# Altium footprint library Transformers.PcbLib: 55 footprints (part 2 of 4)
Each footprint in its own frame and in the unit in brackets; x right, y up, seen from the top. Pads: shape width x height; smd on the part's side, far side on the other; paste and mask are expansions set on the pad; w line width, h text height; cw(c..) or ccw(c..) is an arc to the next point about the centre after c.
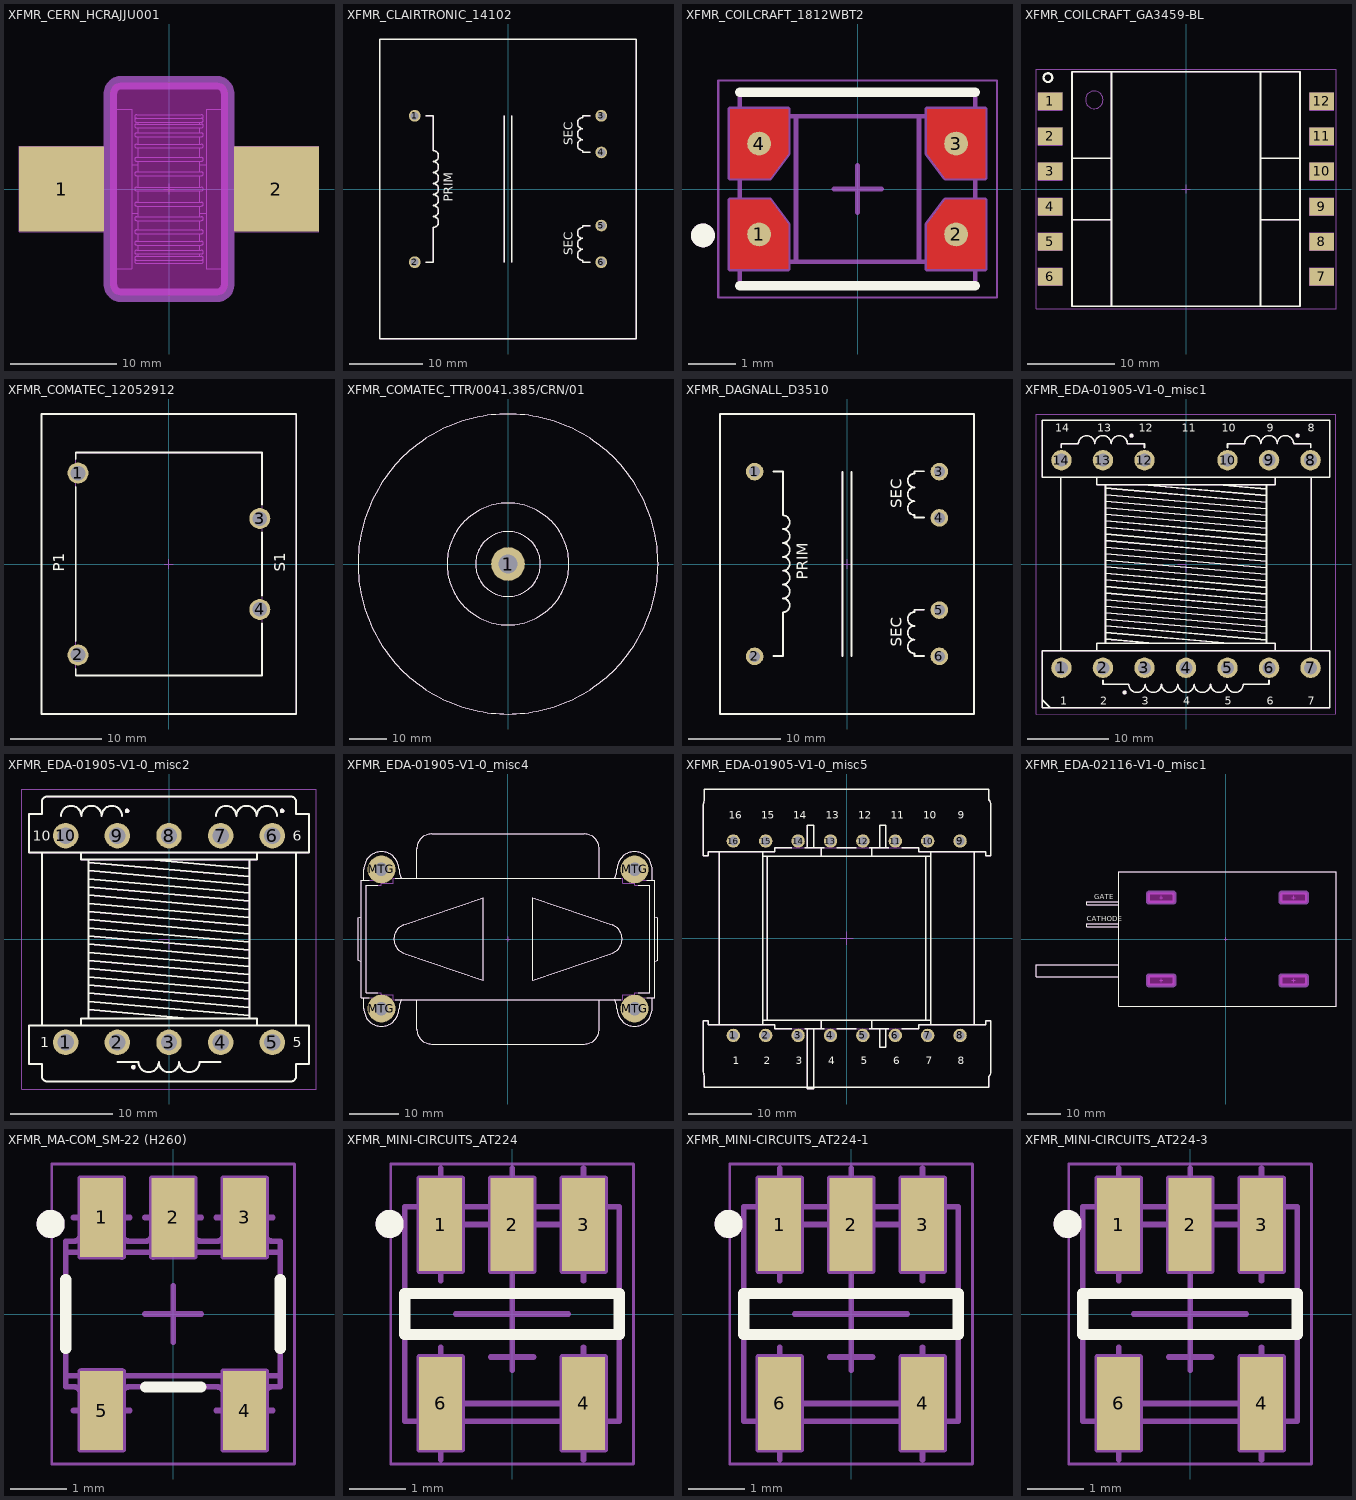
[diagram p1: the footprints below, top view; thin cyan lines are the x and y axes]

## XFMR_CERN_HCRAJJU001 [mm] "CERN HF Current transformer"
height 14
pads (2):
  rect 8x8 smd paste-4 mask+0.1: 1(-10.1,0) 2(10.1,0)
Keep-Out Layer:
  board cut-out: -5.5,-9 -5.5,9 -5.5,9.098 -5.462,9.292 -5.386,9.474 -5.277,9.637 -5.137,9.777 -4.974,9.886 -4.792,9.962 -4.598,10 -4.5,10 4.5,10 4.598,10 4.792,9.962 4.974,9.886 5.137,9.777 5.277,9.637 5.386,9.474 5.462,9.292 5.5,9.098 5.5,9 5.5,-9 5.5,-9.098 5.462,-9.292 5.386,-9.474 5.277,-9.637 5.137,-9.777 4.974,-9.886 4.792,-9.962 4.598,-10 4.5,-10 -4.5,-10 -4.598,-10 -4.792,-9.962 -4.974,-9.886 -5.137,-9.777 -5.277,-9.637 -5.386,-9.474 -5.462,-9.292 -5.5,-9.098
Mechanical 1:
  lines w1.27: -5.5,-9 ccw(c-4.5,-9) -4.5,-10 4.5,-10 ccw(c4.5,-9) 5.5,-9 5.5,9 ccw(c4.5,9) 4.5,10 -4.5,10 ccw(c-4.5,9) -5.5,9 -5.5,-9
Mechanical 8:
  lines w0.1: -10.6,0 -10.1,0 ; -10.1,-0.5 -10.1,0 ; -10.1,0.5 -10.1,0 ; -9.6,0 -10.1,0 ; -0.5,0 0,0 ; 0,-0.5 0,0 ; 0,0.5 0,0 ; 0.5,0 0,0 ; 9.6,0 10.1,0 ; 10.1,-0.5 10.1,0 ; 10.1,0.5 10.1,0 ; 10.6,0 10.1,0 ; -14.1,-4 -6.1,-4 -6.1,4 -14.1,4 -14.1,-4 ; -5.5,-9 ccw(c-4.5,-9) -4.5,-10 4.5,-10 ccw(c4.5,-9) 5.5,-9 5.5,9 ccw(c4.5,9) 4.5,10 -4.5,10 ccw(c-4.5,9) -5.5,9 -5.5,-9 ; 6.1,-4 14.1,-4 14.1,4 6.1,4 6.1,-4
Mechanical 14:
  lines w0.1: -5,-2.3 -8.55,-2.3 -8.55,2.3 -5,2.3 ; -3.5,-2.3 -2.895,-2.3 ; -3.5,2.3 -2.895,2.3 ; -3.138,-6.666 ccw(c-3.05,-6.818) -3.05,-6.993 3.05,-6.993 ccw(c3.05,-6.818) 3.138,-6.666 ; -2.895,-6.34 -2.895,-6.107 ; -2.895,-5.757 -2.895,-5.266 ; -2.895,-4.916 -2.895,-4.201 ; -2.895,-3.851 -2.895,-2.961 ; -2.895,-2.611 -2.895,-1.599 ; -2.895,-1.249 -2.895,-0.175 ; -2.895,0.175 -2.895,1.249 ; -2.895,1.599 -2.895,2.611 ; -2.895,2.961 -2.895,3.87 ; -2.895,4.22 -2.895,4.916 ; -2.895,5.266 -2.895,5.757 ; -2.895,6.107 -2.895,6.286 ; -2.895,6.636 -2.895,6.637 ; 2.895,-6.34 2.895,-6.107 ; 2.895,-5.757 2.895,-5.266 ; 2.895,-4.916 2.895,-4.201 ; 2.895,-3.851 2.895,-2.961 ; 2.895,-2.611 2.895,-1.599 ; 2.895,-2.3 3.5,-2.3 ; 2.895,-1.249 2.895,-0.175 ; 2.895,0.175 2.895,1.249 ; 2.895,1.599 2.895,2.611 ; 2.895,2.3 3.5,2.3 ; 2.895,2.961 2.895,3.87 ; 2.895,4.22 2.895,4.916 ; 2.895,5.266 2.895,5.757 ; 2.895,6.107 2.895,6.286 ; 2.895,6.636 2.895,6.637 ; 5,-2.3 8.55,-2.3 8.55,2.3 5,2.3 ; -5,-7.5 -3.5,-7.5 -3.5,7.5 -5,7.5 -5,-7.5 ; -3.05,-6.69 cw(c-3.05,-6.515) -3.05,-6.34 3.05,-6.34 cw(c3.05,-6.515) 3.05,-6.69 -3.05,-6.69 ; -3.05,-6.107 cw(c-3.05,-5.932) -3.05,-5.757 3.05,-5.757 cw(c3.05,-5.932) 3.05,-6.107 -3.05,-6.107 ; -3.05,-5.266 cw(c-3.05,-5.091) -3.05,-4.916 3.05,-4.916 cw(c3.05,-5.091) 3.05,-5.266 -3.05,-5.266 ; -3.05,-4.201 cw(c-3.05,-4.026) -3.05,-3.851 3.05,-3.851 cw(c3.05,-4.026) 3.05,-4.201 -3.05,-4.201 ; -3.05,-2.961 cw(c-3.05,-2.786) -3.05,-2.611 3.05,-2.611 cw(c3.05,-2.786) 3.05,-2.961 -3.05,-2.961 ; -3.05,-1.599 cw(c-3.05,-1.424) -3.05,-1.249 3.05,-1.249 cw(c3.05,-1.424) 3.05,-1.599 -3.05,-1.599 ; -3.05,-0.175 cw(c-3.05,0) -3.05,0.175 3.05,0.175 cw(c3.05,0) 3.05,-0.175 -3.05,-0.175 ; -3.05,1.249 cw(c-3.05,1.424) -3.05,1.599 3.05,1.599 cw(c3.05,1.424) 3.05,1.249 -3.05,1.249 ; -3.05,2.611 cw(c-3.05,2.786) -3.05,2.961 3.05,2.961 cw(c3.05,2.786) 3.05,2.611 -3.05,2.611 ; -3.05,3.87 cw(c-3.05,4.045) -3.05,4.22 3.05,4.22 cw(c3.05,4.045) 3.05,3.87 -3.05,3.87 ; -3.05,4.916 cw(c-3.05,5.091) -3.05,5.266 3.05,5.266 cw(c3.05,5.091) 3.05,4.916 -3.05,4.916 ; -3.05,5.757 cw(c-3.05,5.932) -3.05,6.107 3.05,6.107 cw(c3.05,5.932) 3.05,5.757 -3.05,5.757 ; -3.05,6.286 cw(c-3.05,6.461) -3.05,6.636 3.05,6.636 cw(c3.05,6.461) 3.05,6.286 -3.05,6.286 ; -3.05,6.637 cw(c-3.05,6.812) -3.05,6.987 3.05,6.987 cw(c3.05,6.812) 3.05,6.637 -3.05,6.637 ; 3.5,-7.5 5,-7.5 5,7.5 3.5,7.5 3.5,-7.5
Drill Drawing:
  lines w0.1: -4.56,4.658 -5.5,5 ; -4.56,5.342 -5.5,5 ; -2.342,-9.06 -2,-10 ; -2.342,9.06 -2,10 ; -1.658,-9.06 -2,-10 ; -1.658,9.06 -2,10 ; -0.5,0 0,0 ; 0,-0.5 0,0 ; 0,0.5 0,0 ; 0.5,0 0,0 ; 1.224,-8.224 3.774,-8.224 5.225,-9.675 ; 4.319,-9.252 5.225,-9.675 ; 4.56,4.658 5.5,5 ; 4.56,5.342 5.5,5 ; 4.802,-8.769 5.225,-9.675 ; -5.5,5 5.5,5 ; -2,-10 -2,10 ; -5.5,-9 ccw(c-4.5,-9) -4.5,-10 4.5,-10 ccw(c4.5,-9) 5.5,-9 5.5,9 ccw(c4.5,9) 4.5,10 -4.5,10 ccw(c-4.5,9) -5.5,9 -5.5,-9
  text "11" at 0.797,5.209 h1
  text "20" at -2.209,-2.791 h1
  text "r1" at 1.892,-8.014 h1
3D body "XFMR_CERN_HCRAJJU001.stp": height 7.5, standoff -7.5, extent -8.55,-7.5 8.55,7.5

## XFMR_CLAIRTRONIC_14102 [mm] "CLAIRTRONIC 14102 Encapsulated Transformer 3.5VA - Body 41X35mm"
height 26
pads (6):
  round 1.6 hole 1.1: 1(-12.75,10) 2(-12.75,-10) 3(12.75,10) 4(12.75,5) 5(12.75,-5) 6(12.75,-10)
Top Overlay:
  lines w0.2: -11.25,-10 -10.25,-10 -10.25,-5.25 ccw(c-10.25,-4.5) -10.25,-3.75 ccw(c-10.25,-3) -10.25,-2.25 ccw(c-10.25,-1.5) -10.25,-0.75 ccw(c-10.25,0) -10.25,0.75 ccw(c-10.25,1.5) -10.25,2.25 ccw(c-10.25,3) -10.25,3.75 ccw(c-10.25,4.5) -10.25,5.25 -10.25,10 -11.25,10 ; -0.5,-10 -0.5,10 ; 0.5,-10 0.5,10 ; 11.25,-10 10.25,-10 10.25,-9.75 cw(c10.25,-9) 10.25,-8.25 cw(c10.25,-7.5) 10.25,-6.75 cw(c10.25,-6) 10.25,-5.25 10.25,-5 11.25,-5 ; 11.25,5 10.25,5 10.25,5.25 cw(c10.25,6) 10.25,6.75 cw(c10.25,7.5) 10.25,8.25 cw(c10.25,9) 10.25,9.75 10.25,10 11.25,10 ; -17.5,-20.5 -17.5,20.5 17.5,20.5 17.5,-20.5 -17.5,-20.5
  text "SEC" at 8.85,-9.036 h1.2
  text "SEC" at 8.85,5.964 h1.2
  text "PRIM" at -7.564,-1.746 h1.2
Mechanical 14:
  lines w0.1: -11.25,-10 -10.25,-10 -10.25,-5.25 ccw(c-10.25,-4.5) -10.25,-3.75 ccw(c-10.25,-3) -10.25,-2.25 ccw(c-10.25,-1.5) -10.25,-0.75 ccw(c-10.25,0) -10.25,0.75 ccw(c-10.25,1.5) -10.25,2.25 ccw(c-10.25,3) -10.25,3.75 ccw(c-10.25,4.5) -10.25,5.25 -10.25,10 -11.25,10 ; -0.5,-10 -0.5,10 ; 0.5,-10 0.5,10 ; 11.25,-10 10.25,-10 10.25,-9.75 cw(c10.25,-9) 10.25,-8.25 cw(c10.25,-7.5) 10.25,-6.75 cw(c10.25,-6) 10.25,-5.25 10.25,-5 11.25,-5 ; 11.25,5 10.25,5 10.25,5.25 cw(c10.25,6) 10.25,6.75 cw(c10.25,7.5) 10.25,8.25 cw(c10.25,9) 10.25,9.75 10.25,10 11.25,10 ; -17.5,-20.5 -17.5,20.5 17.5,20.5 17.5,-20.5 -17.5,-20.5
  text "SEC" at 8.85,-9.036 h1.2
  text "SEC" at 8.85,5.964 h1.2
  text "PRIM" at -7.564,-1.746 h1.2
3D body: height 26, standoff 24, extent -15.5,-18.5 15.5,18.5
3D body: height 24, standoff 0, extent -17.5,-20.5 17.5,20.5
3D body: height 0, standoff -4, extent -13.15,-10.4 -12.35,-9.6
3D body: height 0, standoff -4, extent -13.15,9.6 -12.35,10.4
3D body: height 0, standoff -4, extent 12.35,-10.4 13.15,-9.6
3D body: height 0, standoff -4, extent 12.35,9.6 13.15,10.4
3D body: height 0, standoff -4, extent 12.35,-5.4 13.15,-4.6
3D body: height 0, standoff -4, extent 12.35,4.6 13.15,5.4

## XFMR_COILCRAFT_1812WBT2 [mm] "Surface Mount Wideband RF Transformer, Body 4.95 x 3.81mm"
height 3.43
pads (4):
  round 0.5 smd paste-0.26 mask-0.26: 1(-2.07,-0.955) 2(2.07,-0.955) 3(2.07,0.955) 4(-2.07,0.955)
Top Layer:
  region: 2.68,1.68 1.46,1.68 1.46,0.74 1.84,0.23 2.68,0.23
  region: 2.68,-1.68 1.46,-1.68 1.46,-0.74 1.84,-0.23 2.68,-0.23
  region: -2.68,-1.68 -1.46,-1.68 -1.46,-0.74 -1.84,-0.23 -2.68,-0.23
  region: -2.68,1.68 -1.46,1.68 -1.46,0.74 -1.84,0.23 -2.68,0.23
Top Overlay:
  circle w0.25: c-3.25,-0.975 r0.125
  lines w0.2: -2.475,-2.03 2.475,-2.03 ; -2.475,2.03 2.475,2.03
Mechanical 8:
  lines w0.1: -2.57,-0.955 -2.07,-0.955 ; -2.57,0.955 -2.07,0.955 ; -2.07,-1.455 -2.07,-0.955 ; -2.07,-0.455 -2.07,-0.955 ; -2.07,0.455 -2.07,0.955 ; -2.07,1.455 -2.07,0.955 ; -1.57,-0.955 -2.07,-0.955 ; -1.57,0.955 -2.07,0.955 ; -0.5,0 0,0 ; 0,-0.5 0,0 ; 0,0.5 0,0 ; 0.5,0 0,0 ; 1.57,-0.955 2.07,-0.955 ; 1.57,0.955 2.07,0.955 ; 2.07,-1.455 2.07,-0.955 ; 2.07,-0.455 2.07,-0.955 ; 2.07,0.455 2.07,0.955 ; 2.07,1.455 2.07,0.955 ; 2.57,-0.955 2.07,-0.955 ; 2.57,0.955 2.07,0.955 ; -2.68,-1.68 -1.46,-1.68 -1.46,-0.74 -1.84,-0.23 -2.68,-0.23 -2.68,-1.68 ; -2.68,0.23 -1.84,0.23 -1.46,0.74 -1.46,1.68 -2.68,1.68 -2.68,0.23 ; 1.46,-1.68 2.68,-1.68 2.68,-0.23 1.84,-0.23 1.46,-0.74 1.46,-1.68 ; 1.46,0.74 1.84,0.23 2.68,0.23 2.68,1.68 1.46,1.68 1.46,0.74
Mechanical 14:
  circle w0.1: c-1.95,-0.975 r0.3
  circle w0.25: c-3.25,-0.975 r0.125
  lines w0.1: -2.475,-1.53 2.475,-1.53 ; -2.475,1.53 2.475,1.53 ; -1.293,-1.53 -1.293,1.53 ; 1.293,-1.53 1.293,1.53 ; -2.475,-2.03 2.475,-2.03 2.475,2.03 -2.475,2.03 -2.475,-2.03
Mechanical 15:
  lines w0.05: -2.93,-2.28 2.93,-2.28 2.93,2.28 -2.93,2.28 -2.93,-2.28
3D body "XFMR_COILCRAFT_1812WBT2.stp": height 3.44, standoff 0, extent -2.475,-2.03 2.475,2.03

## XFMR_COILCRAFT_GA3459-BL [mm] "Flyback Transformer, Body 26 x 26.75mm"
height 14
pads (12):
  rect 2.75x2 smd: 1(-15.475,10) 2(-15.475,6) 3(-15.475,2) 4(-15.475,-2) 5(-15.475,-6) 6(-15.475,-10) 7(15.475,-10) 8(15.475,-6) 9(15.475,-2) 10(15.475,2) 11(15.475,6) 12(15.475,10)
Top Overlay:
  circle w0.25: c-15.74,12.7 r0.5
  lines w0.2: -13,-3.5 -8.5,-3.5 ; -13,3.5 -8.5,3.5 ; -8.5,-13.375 -8.5,13.375 ; 8.5,-13.375 8.5,13.375 ; 8.5,-3.5 13,-3.5 ; 8.5,3.5 13,3.5 ; -13,-13.375 13,-13.375 13,13.375 -13,13.375 -13,-13.375
Mechanical 8:
  lines w0.1: -15.975,-10 -15.475,-10 ; -15.975,-6 -15.475,-6 ; -15.975,-2 -15.475,-2 ; -15.975,2 -15.475,2 ; -15.975,6 -15.475,6 ; -15.975,10 -15.475,10 ; -15.475,-10.5 -15.475,-10 ; -15.475,-9.5 -15.475,-10 ; -15.475,-6.5 -15.475,-6 ; -15.475,-5.5 -15.475,-6 ; -15.475,-2.5 -15.475,-2 ; -15.475,-1.5 -15.475,-2 ; -15.475,1.5 -15.475,2 ; -15.475,2.5 -15.475,2 ; -15.475,5.5 -15.475,6 ; -15.475,6.5 -15.475,6 ; -15.475,9.5 -15.475,10 ; -15.475,10.5 -15.475,10 ; -14.975,-10 -15.475,-10 ; -14.975,-6 -15.475,-6 ; -14.975,-2 -15.475,-2 ; -14.975,2 -15.475,2 ; -14.975,6 -15.475,6 ; -14.975,10 -15.475,10 ; -0.5,0 0,0 ; 0,-0.5 0,0 ; 0,0.5 0,0 ; 0.5,0 0,0 ; 14.975,-10 15.475,-10 ; 14.975,-6 15.475,-6 ; 14.975,-2 15.475,-2 ; 14.975,2 15.475,2 ; 14.975,6 15.475,6 ; 14.975,10 15.475,10 ; 15.475,-10.5 15.475,-10 ; 15.475,-9.5 15.475,-10 ; 15.475,-6.5 15.475,-6 ; 15.475,-5.5 15.475,-6 ; 15.475,-2.5 15.475,-2 ; 15.475,-1.5 15.475,-2 ; 15.475,1.5 15.475,2 ; 15.475,2.5 15.475,2 ; 15.475,5.5 15.475,6 ; 15.475,6.5 15.475,6 ; 15.475,9.5 15.475,10 ; 15.475,10.5 15.475,10 ; 15.975,-10 15.475,-10 ; 15.975,-6 15.475,-6 ; 15.975,-2 15.475,-2 ; 15.975,2 15.475,2 ; 15.975,6 15.475,6 ; 15.975,10 15.475,10 ; -16.85,-11 -14.1,-11 -14.1,-9 -16.85,-9 -16.85,-11 ; -16.85,-7 -14.1,-7 -14.1,-5 -16.85,-5 -16.85,-7 ; -16.85,-3 -14.1,-3 -14.1,-1 -16.85,-1 -16.85,-3 ; -16.85,1 -14.1,1 -14.1,3 -16.85,3 -16.85,1 ; -16.85,5 -14.1,5 -14.1,7 -16.85,7 -16.85,5 ; -16.85,9 -14.1,9 -14.1,11 -16.85,11 -16.85,9 ; 14.1,-11 16.85,-11 16.85,-9 14.1,-9 14.1,-11 ; 14.1,-7 16.85,-7 16.85,-5 14.1,-5 14.1,-7 ; 14.1,-3 16.85,-3 16.85,-1 14.1,-1 14.1,-3 ; 14.1,1 16.85,1 16.85,3 14.1,3 14.1,1 ; 14.1,5 16.85,5 16.85,7 14.1,7 14.1,5 ; 14.1,9 16.85,9 16.85,11 14.1,11 14.1,9
Mechanical 14:
  circle w0.1: c-10.46,10.16 r1
  lines w0.1: -13,-3.5 -8.5,-3.5 ; -13,3.5 -8.5,3.5 ; -8.5,-13.375 -8.5,13.375 ; 8.5,-13.375 8.5,13.375 ; 8.5,-3.5 13,-3.5 ; 8.5,3.5 13,3.5 ; -13,-13.375 13,-13.375 13,13.375 -13,13.375 -13,-13.375
Mechanical 15:
  lines w0.05: -17.1,-13.625 -17.1,13.625 17.1,13.625 17.1,-13.625 -17.1,-13.625
3D body "XFMR_COILCRAFT_GA3459-BL.stp": height 14, standoff 0, extent -16.325,-13.375 16.325,13.375

## XFMR_COMATEC_12052912 [mm] "230VAC to 9.5VAC 2VA, Custom Transformer, Body 28mm x 33mm"
height 27
pads (4):
  round 2.3 hole 1.6: 1(-10,10) 2(-10,-10) 3(10,5) 4(10,-5)
Top Overlay:
  lines w0.2: -10.25,-11.53 -10.25,-12.25 10.25,-12.25 10.25,-6.53 ; -10.25,-8.47 -10.25,8.47 ; -10.25,11.53 -10.25,12.25 10.25,12.25 10.25,6.53 ; 10.25,-3.47 10.25,3.47 ; -14,-16.5 14,-16.5 14,16.5 -14,16.5 -14,-16.5
  text "P1" at -11.5,-0.875 h1.2
  text "S1" at 12.825,-0.85 h1.2
Mechanical 8:
  lines w0.1: -10.5,-10 -10,-10 ; -10.5,10 -10,10 ; -10,-10.5 -10,-10 ; -10,-9.5 -10,-10 ; -10,9.5 -10,10 ; -10,10.5 -10,10 ; -9.5,-10 -10,-10 ; -9.5,10 -10,10 ; -0.5,0 0,0 ; 0,-0.5 0,0 ; 0,0.5 0,0 ; 0.5,0 0,0 ; 9.5,-5 10,-5 ; 9.5,5 10,5 ; 10,-5.5 10,-5 ; 10,-4.5 10,-5 ; 10,4.5 10,5 ; 10,5.5 10,5 ; 10.5,-5 10,-5 ; 10.5,5 10,5
Mechanical 14:
  lines w0.1: -14,-16.5 14,-16.5 14,16.5 -14,16.5 -14,-16.5 ; -10.25,-12.25 -10.25,12.25 10.25,12.25 10.25,-12.25 -10.25,-12.25
  text "P1" at -11.5,-0.875 h1.2
  text "S1" at 12.825,-0.85 h1.2
3D body "XFMR_COMATEC_12052912.stp": height 27, standoff -3.6, extent -14,-16.5 14,16.5

## XFMR_COMATEC_TTR/0041.385/CRN/01 [mm] "230VAC to 15VAC and 15.5VAC and 8VAC, 41VA Toroidal Transformer"
height 36
pads (1):
  round 9 hole 5: 1(0,0)
Top Overlay:
  circle w0.2: c0,0 r40
  circle w0.2: c0,0 r8.653
  circle w0.2: c0,0 r16.253
Mechanical 8:
  lines w0.1: -0.5,0 0,0 ; 0,-0.5 0,0 ; 0,0.5 0,0 ; 0.5,0 0,0
Mechanical 14:
  circle w0.1: c0,0 r40
  circle w0.1: c0,0 r3
  circle w0.1: c0,0 r8.653
  circle w0.1: c0,0 r16.253
3D body "XFMR_COMATEC_TTR.0041.385.CRN.01.stp": height 45.9, standoff -4.1, extent -39.5,-39.5 39.5,39.5

## XFMR_DAGNALL_D3510 [mm] "DAGNALL 1VA PCB Mounted Encapsulated TransformerBody 27.5mm x 32.5mm"
height 21.3
pads (6):
  round 1.9 hole 1.2: 1(-10,10) 2(-10,-10) 3(10,10) 4(10,5) 5(10,-5) 6(10,-10)
Top Overlay:
  lines w0.2: -7.95,-9.975 -6.95,-9.975 -6.95,-5.225 ccw(c-6.95,-4.475) -6.95,-3.725 ccw(c-6.95,-2.975) -6.95,-2.225 ccw(c-6.95,-1.475) -6.95,-0.725 ccw(c-6.95,0.025) -6.95,0.775 ccw(c-6.95,1.525) -6.95,2.275 ccw(c-6.95,3.025) -6.95,3.775 ccw(c-6.95,4.525) -6.95,5.275 -6.95,10.025 -7.95,10.025 ; -0.5,-10 -0.5,10 ; 0.5,-10 0.5,10 ; 8.325,-9.95 7.325,-9.95 7.325,-9.7 cw(c7.325,-8.95) 7.325,-8.2 cw(c7.325,-7.45) 7.325,-6.7 cw(c7.325,-5.95) 7.325,-5.2 7.325,-4.95 8.325,-4.95 ; 8.325,5.05 7.325,5.05 7.325,5.3 cw(c7.325,6.05) 7.325,6.8 cw(c7.325,7.55) 7.325,8.3 cw(c7.325,9.05) 7.325,9.8 7.325,10.05 8.325,10.05 ; -13.75,-16.25 13.75,-16.25 13.75,16.25 -13.75,16.25 -13.75,-16.25
  text "SEC" at 5.925,-8.986 h1.2
  text "SEC" at 5.925,6.014 h1.2
  text "PRIM" at -4.264,-1.721 h1.2
Mechanical 8:
  lines w0.1: -10.5,-10 -10,-10 ; -10.5,10 -10,10 ; -10,-10.5 -10,-10 ; -10,-9.5 -10,-10 ; -10,9.5 -10,10 ; -10,10.5 -10,10 ; -9.5,-10 -10,-10 ; -9.5,10 -10,10 ; -0.5,0 0,0 ; 0,-0.5 0,0 ; 0,0.5 0,0 ; 0.5,0 0,0 ; 9.5,-10 10,-10 ; 9.5,-5 10,-5 ; 9.5,5 10,5 ; 9.5,10 10,10 ; 10,-10.5 10,-10 ; 10,-9.5 10,-10 ; 10,-5.5 10,-5 ; 10,-4.5 10,-5 ; 10,4.5 10,5 ; 10,5.5 10,5 ; 10,9.5 10,10 ; 10,10.5 10,10 ; 10.5,-10 10,-10 ; 10.5,-5 10,-5 ; 10.5,5 10,5 ; 10.5,10 10,10
Mechanical 14:
  lines w0.1: -7.95,-9.975 -6.95,-9.975 -6.95,-5.225 ccw(c-6.95,-4.475) -6.95,-3.725 ccw(c-6.95,-2.975) -6.95,-2.225 ccw(c-6.95,-1.475) -6.95,-0.725 ccw(c-6.95,0.025) -6.95,0.775 ccw(c-6.95,1.525) -6.95,2.275 ccw(c-6.95,3.025) -6.95,3.775 ccw(c-6.95,4.525) -6.95,5.275 -6.95,10.025 -7.95,10.025 ; -0.5,-10 -0.5,10 ; 0.5,-10 0.5,10 ; 8.325,-9.95 7.325,-9.95 7.325,-9.7 cw(c7.325,-8.95) 7.325,-8.2 cw(c7.325,-7.45) 7.325,-6.7 cw(c7.325,-5.95) 7.325,-5.2 7.325,-4.95 8.325,-4.95 ; 8.325,5.05 7.325,5.05 7.325,5.3 cw(c7.325,6.05) 7.325,6.8 cw(c7.325,7.55) 7.325,8.3 cw(c7.325,9.05) 7.325,9.8 7.325,10.05 8.325,10.05 ; -13.75,-16.25 13.75,-16.25 13.75,16.25 -13.75,16.25 -13.75,-16.25
  text "SEC" at 5.925,-8.986 h1.2
  text "SEC" at 5.925,6.014 h1.2
  text "PRIM" at -4.264,-1.721 h1.2
3D body "XFMR_DAGNALL_D3510.stp": height 21.3, standoff -3.6, extent -13.75,-16.25 13.75,16.25

## XFMR_EDA-01905-V1-0_misc1 [mm] "ETD29 Core + Coil Former + Yoke"
height 25.4
pads (13):
  round 2.5 hole 1.6: 1(-15.24,-12.7) 2(-10.16,-12.7) 3(-5.08,-12.7) 4(0,-12.7) 5(5.08,-12.7) 6(10.16,-12.7) 7(15.24,-12.7) 8(15.24,12.7) 9(10.16,12.7) 10(5.08,12.7) 12(-5.08,12.7) 13(-10.16,12.7) 14(-15.24,12.7)
Top Overlay:
  circle w0.25: c13.66,15.7 r0.125
  circle w0.25: c-7.5,-15.7 r0.125
  circle w0.25: c-6.66,15.7 r0.125
  lines w0.2: -17.6,-16.6 -16.6,-17.6 ; -15.3,-10.6 -15.3,10.6 ; -15.24,14.2 -15.24,14.7 -13.16,14.7 cw(c-12.16,14.7) -11.16,14.7 cw(c-10.16,14.7) -9.16,14.7 cw(c-8.16,14.7) -7.16,14.7 -5.08,14.7 -5.08,14.2 ; -10.9,-10.6 -10.9,-9.7 10.9,-9.7 10.9,-10.6 ; -10.9,10.6 -10.9,9.7 10.9,9.7 10.9,10.6 ; -10.16,-14.2 -10.16,-14.7 -7,-14.7 ccw(c-6,-14.7) -5,-14.7 ccw(c-4,-14.7) -3,-14.7 ccw(c-2,-14.7) -1,-14.7 ccw(c0,-14.7) 1,-14.7 ccw(c2,-14.7) 3,-14.7 ccw(c4,-14.7) 5,-14.7 ccw(c6,-14.7) 7,-14.7 10.16,-14.7 10.16,-14.2 ; -9.848,-9.7 -9.848,9.7 ; -9.848,-9.177 -3.866,-9.7 ; -9.848,-8.374 5.313,-9.7 ; -9.848,-7.57 9.848,-9.294 ; -9.848,-6.767 9.848,-8.491 ; -9.848,-5.964 9.848,-7.688 ; -9.848,-5.161 9.848,-6.885 ; -9.848,-4.358 9.848,-6.081 ; -9.848,-3.555 9.848,-5.278 ; -9.848,-2.752 9.848,-4.475 ; -9.848,-1.949 9.848,-3.672 ; -9.848,-1.146 9.848,-2.869 ; -9.848,-0.343 9.848,-2.066 ; -9.848,0.46 9.848,-1.263 ; -9.848,1.263 9.848,-0.46 ; -9.848,2.066 9.848,0.343 ; -9.848,2.869 9.848,1.146 ; -9.848,3.672 9.848,1.949 ; -9.848,4.475 9.848,2.752 ; -9.848,5.278 9.848,3.555 ; -9.848,6.081 9.848,4.358 ; -9.848,6.885 9.848,5.161 ; -9.848,7.688 9.848,5.964 ; -9.848,8.491 9.848,6.767 ; -9.848,9.294 9.848,7.57 ; -5.313,9.7 9.848,8.374 ; 3.866,9.7 9.848,9.177 ; 5.08,14.2 5.08,14.7 7.16,14.7 cw(c8.16,14.7) 9.16,14.7 cw(c10.16,14.7) 11.16,14.7 cw(c12.16,14.7) 13.16,14.7 15.24,14.7 15.24,14.2 ; 9.848,-9.7 9.848,9.7 ; 15.3,-10.6 15.3,10.6 ; -17.6,-17.6 -17.6,-10.6 17.6,-10.6 17.6,-17.6 -17.6,-17.6 ; -17.6,10.6 17.6,10.6 17.6,17.6 -17.6,17.6 -17.6,10.6
  text "8" at 14.907,16.2 h1
  text "9" at 9.85,16.2 h1
  text "10" at 4.366,16.2 h1
  text "11" at -0.5,16.2 h1
  text "12" at -5.794,16.2 h1
  text "13" at -10.874,16.2 h1
  text "14" at -15.978,16.2 h1
  text "7" at 14.907,-17.2 h1
  text "6" at 9.85,-17.2 h1
  text "5" at 4.747,-17.2 h1
  text "4" at -0.357,-17.2 h1
  text "3" at -5.413,-17.2 h1
  text "2" at -10.493,-17.2 h1
  text "1" at -15.359,-17.2 h1
Mechanical 8:
  circle w0.1: c15.24,12.7 r0.8
  circle w0.1: c10.16,12.7 r0.8
  circle w0.1: c5.08,12.7 r0.8
  circle w0.1: c-5.08,12.7 r0.8
  circle w0.1: c-10.16,12.7 r0.8
  circle w0.1: c-15.24,12.7 r0.8
  circle w0.1: c15.24,-12.7 r0.8
  circle w0.1: c10.16,-12.7 r0.8
  circle w0.1: c5.08,-12.7 r0.8
  circle w0.1: c0,-12.7 r0.8
  circle w0.1: c-5.08,-12.7 r0.8
  circle w0.1: c-10.16,-12.7 r0.8
  circle w0.1: c-15.24,-12.7 r0.8
  lines w0.1: -16.24,-12.7 -15.24,-12.7 -15.24,-13.7 ; -16.24,12.7 -15.24,12.7 -15.24,11.7 ; -11.16,-12.7 -10.16,-12.7 -10.16,-13.7 ; -11.16,12.7 -10.16,12.7 -10.16,11.7 ; -6.08,-12.7 -5.08,-12.7 -5.08,-13.7 ; -6.08,12.7 -5.08,12.7 -5.08,11.7 ; -1,-12.7 0,-12.7 0,-13.7 ; -1,0 0,0 0,-1 ; 4.08,-12.7 5.08,-12.7 5.08,-13.7 ; 4.08,12.7 5.08,12.7 5.08,11.7 ; 9.16,-12.7 10.16,-12.7 10.16,-13.7 ; 9.16,12.7 10.16,12.7 10.16,11.7 ; 14.24,-12.7 15.24,-12.7 15.24,-13.7 ; 14.24,12.7 15.24,12.7 15.24,11.7
Mechanical 14:
  circle w0.25: c13.66,15.7 r0.125
  circle w0.25: c-7.5,-15.7 r0.125
  circle w0.25: c-6.66,15.7 r0.125
  lines w0.1: -17.6,-16.6 -16.6,-17.6 ; -15.3,-10.6 -15.3,10.6 ; -15.24,14.2 -15.24,14.7 -13.16,14.7 cw(c-12.16,14.7) -11.16,14.7 cw(c-10.16,14.7) -9.16,14.7 cw(c-8.16,14.7) -7.16,14.7 -5.08,14.7 -5.08,14.2 ; -10.9,-10.6 -10.9,-9.7 10.9,-9.7 10.9,-10.6 ; -10.9,10.6 -10.9,9.7 10.9,9.7 10.9,10.6 ; -10.16,-14.2 -10.16,-14.7 -7,-14.7 ccw(c-6,-14.7) -5,-14.7 ccw(c-4,-14.7) -3,-14.7 ccw(c-2,-14.7) -1,-14.7 ccw(c0,-14.7) 1,-14.7 ccw(c2,-14.7) 3,-14.7 ccw(c4,-14.7) 5,-14.7 ccw(c6,-14.7) 7,-14.7 10.16,-14.7 10.16,-14.2 ; -9.848,-9.7 -9.848,9.7 ; -9.848,-9.177 -3.866,-9.7 ; -9.848,-8.374 5.313,-9.7 ; -9.848,-7.57 9.848,-9.294 ; -9.848,-6.767 9.848,-8.491 ; -9.848,-5.964 9.848,-7.688 ; -9.848,-5.161 9.848,-6.885 ; -9.848,-4.358 9.848,-6.081 ; -9.848,-3.555 9.848,-5.278 ; -9.848,-2.752 9.848,-4.475 ; -9.848,-1.949 9.848,-3.672 ; -9.848,-1.146 9.848,-2.869 ; -9.848,-0.343 9.848,-2.066 ; -9.848,0.46 9.848,-1.263 ; -9.848,1.263 9.848,-0.46 ; -9.848,2.066 9.848,0.343 ; -9.848,2.869 9.848,1.146 ; -9.848,3.672 9.848,1.949 ; -9.848,4.475 9.848,2.752 ; -9.848,5.278 9.848,3.555 ; -9.848,6.081 9.848,4.358 ; -9.848,6.885 9.848,5.161 ; -9.848,7.688 9.848,5.964 ; -9.848,8.491 9.848,6.767 ; -9.848,9.294 9.848,7.57 ; -5.313,9.7 9.848,8.374 ; 3.866,9.7 9.848,9.177 ; 5.08,14.2 5.08,14.7 7.16,14.7 cw(c8.16,14.7) 9.16,14.7 cw(c10.16,14.7) 11.16,14.7 cw(c12.16,14.7) 13.16,14.7 15.24,14.7 15.24,14.2 ; 9.848,-9.7 9.848,9.7 ; 15.3,-10.6 15.3,10.6 ; -17.6,-17.6 -17.6,-10.6 17.6,-10.6 17.6,-17.6 -17.6,-17.6 ; -17.6,10.6 17.6,10.6 17.6,17.6 -17.6,17.6 -17.6,10.6
  text "8" at 14.907,16.2 h1
  text "9" at 9.85,16.2 h1
  text "10" at 4.366,16.2 h1
  text "11" at -0.5,16.2 h1
  text "12" at -5.794,16.2 h1
  text "13" at -10.874,16.2 h1
  text "14" at -15.978,16.2 h1
  text "7" at 14.907,-17.2 h1
  text "6" at 9.85,-17.2 h1
  text "5" at 4.747,-17.2 h1
  text "4" at -0.357,-17.2 h1
  text "3" at -5.413,-17.2 h1
  text "2" at -10.493,-17.2 h1
  text "1" at -15.359,-17.2 h1
Mechanical 15:
  lines w0.1: -18.35,-18.35 -18.35,18.35 18.35,18.35 18.35,-18.35 -18.35,-18.35
3D body "XFMR_EDA-01892-V1-0_misc1.stp": height 24.75, standoff -3.4, extent -17.6,-17.749 17.6,17.749

## XFMR_EDA-01905-V1-0_misc2 [mm] "EF25 Core + Coil Former + Yoke"
height 20.7
pads (10):
  round 2.5 hole 1.6: 1(-10.16,-10.16) 2(-5.08,-10.16) 3(0,-10.16) 4(5.08,-10.16) 5(10.16,-10.16) 6(10.16,10.16) 7(5.08,10.16) 8(0,10.16) 9(-5.08,10.16) 10(-10.16,10.16)
Top Overlay:
  circle w0.2: c-3.5,-12.595 r0.125
  circle w0.2: c11.12,12.595 r0.125
  circle w0.2: c-4.12,12.595 r0.125
  lines w0.2: -12.5,-8.5 -12.5,8.5 ; -10.62,12.095 cw(c-9.62,12.095) -8.62,12.095 cw(c-7.62,12.095) -6.62,12.095 cw(c-5.62,12.095) -4.62,12.095 ; -8.65,-8.5 -8.65,-7.8 8.65,-7.8 8.65,-8.5 ; -8.65,8.5 -8.65,7.8 8.65,7.8 8.65,8.5 ; -7.9,-7.8 -7.9,7.8 ; -7.9,-6.938 1.954,-7.8 ; -7.9,-6.135 7.9,-7.517 ; -7.9,-5.332 7.9,-6.714 ; -7.9,-4.529 7.9,-5.911 ; -7.9,-3.726 7.9,-5.108 ; -7.9,-2.923 7.9,-4.305 ; -7.9,-2.12 7.9,-3.502 ; -7.9,-1.316 7.9,-2.699 ; -7.9,-0.513 7.9,-1.896 ; -7.9,0.29 7.9,-1.093 ; -7.9,1.093 7.9,-0.29 ; -7.9,1.896 7.9,0.513 ; -7.9,2.699 7.9,1.316 ; -7.9,3.502 7.9,2.12 ; -7.9,4.305 7.9,2.923 ; -7.9,5.108 7.9,3.726 ; -7.9,5.911 7.9,4.529 ; -7.9,6.714 7.9,5.332 ; -7.9,7.517 7.9,6.135 ; -5.08,-12.095 -3,-12.095 ccw(c-2,-12.095) -1,-12.095 ccw(c0,-12.095) 1,-12.095 ccw(c2,-12.095) 3,-12.095 5.08,-12.095 ; -1.954,7.8 7.9,6.938 ; 4.62,12.095 cw(c5.62,12.095) 6.62,12.095 cw(c7.62,12.095) 8.62,12.095 cw(c9.62,12.095) 10.62,12.095 ; 7.9,-7.8 7.9,7.8 ; 12.5,-8.5 12.5,8.5 ; -13.75,-12.3 -12.5,-12.3 -12.5,-13.5 ccw(c-12,-13.5) -12,-14 12,-14 ccw(c12,-13.5) 12.5,-13.5 12.5,-12.3 13.75,-12.3 13.75,-8.5 -13.75,-8.5 -13.75,-12.3 ; -13.75,8.5 13.75,8.5 13.75,12.3 12.5,12.3 12.5,13.5 ccw(c12,13.5) 12,14 -12,14 ccw(c-12,13.5) -12.5,13.5 -12.5,12.3 -13.75,12.3 -13.75,8.5
  text "10" at -13.41,9.66 h1
  text "6" at 12.16,9.66 h1
  text "5" at 12.16,-10.66 h1
  text "1" at -12.66,-10.66 h1
Mechanical 8:
  lines w0.1: -11.16,-10.16 -10.16,-10.16 -10.16,-11.16 ; -11.16,10.16 -10.16,10.16 -10.16,9.16 ; -6.08,-10.16 -5.08,-10.16 -5.08,-11.16 ; -6.08,10.16 -5.08,10.16 -5.08,9.16 ; -1,-10.16 0,-10.16 0,-11.16 ; -1,0 0,0 0,-1 ; -1,10.16 0,10.16 0,9.16 ; 4.08,-10.16 5.08,-10.16 5.08,-11.16 ; 4.08,10.16 5.08,10.16 5.08,9.16 ; 9.16,-10.16 10.16,-10.16 10.16,-11.16 ; 9.16,10.16 10.16,10.16 10.16,9.16 ; -10.51,-10.51 -9.81,-10.51 -9.81,-9.81 -10.51,-9.81 -10.51,-10.51 ; -10.51,9.81 -9.81,9.81 -9.81,10.51 -10.51,10.51 -10.51,9.81 ; -5.43,-10.51 -4.73,-10.51 -4.73,-9.81 -5.43,-9.81 -5.43,-10.51 ; -5.43,9.81 -4.73,9.81 -4.73,10.51 -5.43,10.51 -5.43,9.81 ; -0.35,-10.51 0.35,-10.51 0.35,-9.81 -0.35,-9.81 -0.35,-10.51 ; -0.35,9.81 0.35,9.81 0.35,10.51 -0.35,10.51 -0.35,9.81 ; 4.73,-10.51 5.43,-10.51 5.43,-9.81 4.73,-9.81 4.73,-10.51 ; 4.73,9.81 5.43,9.81 5.43,10.51 4.73,10.51 4.73,9.81 ; 9.81,-10.51 10.51,-10.51 10.51,-9.81 9.81,-9.81 9.81,-10.51 ; 9.81,9.81 10.51,9.81 10.51,10.51 9.81,10.51 9.81,9.81
Mechanical 14:
  circle w0.2: c-3.5,-12.595 r0.125
  circle w0.2: c11.12,12.595 r0.125
  circle w0.2: c-4.12,12.595 r0.125
  lines w0.1: -12.5,-8.5 -12.5,8.5 ; -10.62,12.095 cw(c-9.62,12.095) -8.62,12.095 cw(c-7.62,12.095) -6.62,12.095 cw(c-5.62,12.095) -4.62,12.095 ; -8.65,-8.5 -8.65,-7.8 8.65,-7.8 8.65,-8.5 ; -8.65,8.5 -8.65,7.8 8.65,7.8 8.65,8.5 ; -7.9,-7.8 -7.9,7.8 ; -7.9,-6.938 1.954,-7.8 ; -7.9,-6.135 7.9,-7.517 ; -7.9,-5.332 7.9,-6.714 ; -7.9,-4.529 7.9,-5.911 ; -7.9,-3.726 7.9,-5.108 ; -7.9,-2.923 7.9,-4.305 ; -7.9,-2.12 7.9,-3.502 ; -7.9,-1.316 7.9,-2.699 ; -7.9,-0.513 7.9,-1.896 ; -7.9,0.29 7.9,-1.093 ; -7.9,1.093 7.9,-0.29 ; -7.9,1.896 7.9,0.513 ; -7.9,2.699 7.9,1.316 ; -7.9,3.502 7.9,2.12 ; -7.9,4.305 7.9,2.923 ; -7.9,5.108 7.9,3.726 ; -7.9,5.911 7.9,4.529 ; -7.9,6.714 7.9,5.332 ; -7.9,7.517 7.9,6.135 ; -5.08,-12.095 -3,-12.095 ccw(c-2,-12.095) -1,-12.095 ccw(c0,-12.095) 1,-12.095 ccw(c2,-12.095) 3,-12.095 5.08,-12.095 ; -1.954,7.8 7.9,6.938 ; 4.62,12.095 cw(c5.62,12.095) 6.62,12.095 cw(c7.62,12.095) 8.62,12.095 cw(c9.62,12.095) 10.62,12.095 ; 7.9,-7.8 7.9,7.8 ; 12.5,-8.5 12.5,8.5 ; -13.75,-12.3 -12.5,-12.3 -12.5,-13.5 ccw(c-12,-13.5) -12,-14 12,-14 ccw(c12,-13.5) 12.5,-13.5 12.5,-12.3 13.75,-12.3 13.75,-8.5 -13.75,-8.5 -13.75,-12.3 ; -13.75,8.5 13.75,8.5 13.75,12.3 12.5,12.3 12.5,13.5 ccw(c12,13.5) 12,14 -12,14 ccw(c-12,13.5) -12.5,13.5 -12.5,12.3 -13.75,12.3 -13.75,8.5
  text "10" at -13.41,9.66 h1
  text "6" at 12.16,9.66 h1
  text "5" at 12.16,-10.66 h1
  text "1" at -12.66,-10.66 h1
Mechanical 15:
  lines w0.1: -14.5,-14.75 14.5,-14.75 14.5,14.75 -14.5,14.75 -14.5,-14.75
3D body "XFMR_EDA-01905-V1-0_misc2.stp": height 20.7, standoff -3.5, extent -13.75,-14 13.75,14

## XFMR_EDA-01905-V1-0_misc4 [mm] "E55/28/21 Core + Coil Former + Spring + Clasp"
height 65.3
pads (4):
  round 5.6 hole 2.7: MTG(-25.4,-13.97) MTG(-25.4,13.97) MTG(25.4,-13.97) MTG(25.4,13.97)
Top Overlay:
  lines w0.2: -29.4,-4.509 -30.1,-4.254 -30.1,4.254 -29.4,4.509 ; -27.842,-11.75 -29.4,-11.75 ; -27.842,11.75 -29.4,11.75 ; -26.122,-10.75 -28.4,-10.75 -28.4,10.75 -26.122,10.75 ; -22.647,-12.15 22.647,-12.15 ; -22.647,12.15 22.647,12.15 ; -21.354,-12.15 ccw(c-18.4,-13.97) -21.87,-13.97 cw(c-25.4,-13.97) -28.93,-13.97 -28.93,-11.75 -29.4,-11.75 ; -21.354,12.15 cw(c-18.4,13.97) -21.87,13.97 ccw(c-25.4,13.97) -28.93,13.97 -28.93,11.75 -29.4,11.75 ; -18.3,-12.15 -18.3,-18.075 ccw(c-15.3,-18.075) -15.3,-21.075 15.3,-21.075 ccw(c15.3,-18.075) 18.3,-18.075 18.3,-12.15 ; -18.3,12.15 -18.3,18.075 cw(c-15.3,18.075) -15.3,21.075 15.3,21.075 cw(c15.3,18.075) 18.3,18.075 18.3,12.15 ; 21.354,-12.15 cw(c18.4,-13.97) 21.87,-13.97 ccw(c25.4,-13.97) 28.93,-13.97 28.93,-11.75 29.4,-11.75 ; 21.354,12.15 ccw(c18.4,13.97) 21.87,13.97 cw(c25.4,13.97) 28.93,13.97 28.93,11.75 29.4,11.75 ; 26.122,-10.75 28.4,-10.75 28.4,10.75 26.122,10.75 ; 27.842,-11.75 29.4,-11.75 ; 27.842,11.75 29.4,11.75 ; 29.4,-4.509 30.1,-4.254 30.1,4.254 29.4,4.509 ; -29.4,-11.75 -29.4,11.75 ; -29.4,-11.75 -29.4,11.75 ; 29.4,-11.75 29.4,11.75 ; 29.4,-11.75 29.4,11.75 ; -20.874,-2.837 cw(c-19.898,0) -20.874,2.837 -5,8.3 -5,-8.3 -20.874,-2.837 ; 5,-8.3 20.875,-2.837 ccw(c19.898,0) 20.875,2.837 5,8.3 5,-8.3
Mechanical 8:
  lines w0.1: -25.9,13.97 -25.4,13.97 ; -25.4,13.47 -25.4,13.97 ; -25.4,14.47 -25.4,13.97 ; -24.9,13.97 -25.4,13.97 ; 24.9,13.97 25.4,13.97 ; 25.4,13.47 25.4,13.97 ; 25.4,14.47 25.4,13.97 ; 25.9,13.97 25.4,13.97 ; -25.4,-13.97 -25.4,-13.47 -25.4,-13.97 ; -25.4,-13.97 -24.9,-13.97 -25.4,-13.97 ; -25.4,-13.97 -25.4,-14.47 -25.4,-13.97 ; -25.4,-13.97 -25.9,-13.97 -25.4,-13.97 ; 0,0 0,0.5 0,0 ; 0,0 0.5,0 0,0 ; 0,0 0,-0.5 0,0 ; 0,0 -0.5,0 0,0 ; 25.4,-13.97 25.4,-13.47 25.4,-13.97 ; 25.4,-13.97 25.9,-13.97 25.4,-13.97 ; 25.4,-13.97 25.4,-14.47 25.4,-13.97 ; 25.4,-13.97 24.9,-13.97 25.4,-13.97
Mechanical 14:
  circle w0.1: c25.4,-13.97 r1.4
  circle w0.1: c-25.4,-13.97 r1.4
  circle w0.1: c25.4,13.97 r1.4
  circle w0.1: c-25.4,13.97 r1.4
  lines w0.1: -29.4,-4.509 -30.1,-4.254 -30.1,4.254 -29.4,4.509 ; -25.4,-11.15 -23,-11.15 -23,-12.15 23,-12.15 23,-11.15 25.403,-11.15 ; -25.4,11.15 -23,11.15 -23,12.15 23,12.15 23,11.15 25.4,11.15 ; -21.354,-12.15 ccw(c-18.4,-13.97) -21.87,-13.97 cw(c-25.4,-13.97) -28.93,-13.97 -28.93,-11.75 -29.4,-11.75 ; -21.354,12.15 cw(c-18.4,13.97) -21.87,13.97 ccw(c-25.4,13.97) -28.93,13.97 -28.93,11.75 -29.4,11.75 ; -18.3,-12.15 -18.3,-18.075 ccw(c-15.3,-18.075) -15.3,-21.075 15.3,-21.075 ccw(c15.3,-18.075) 18.3,-18.075 18.3,-12.15 ; -18.3,12.15 -18.3,18.075 cw(c-15.3,18.075) -15.3,21.075 15.3,21.075 cw(c15.3,18.075) 18.3,18.075 18.3,12.15 ; 21.354,-12.15 cw(c18.4,-13.97) 21.87,-13.97 ccw(c25.4,-13.97) 28.93,-13.97 28.93,-11.75 29.4,-11.75 ; 21.354,12.15 ccw(c18.4,13.97) 21.87,13.97 cw(c25.4,13.97) 28.93,13.97 28.93,11.75 29.4,11.75 ; 29.4,-4.509 30.1,-4.254 30.1,4.254 29.4,4.509 ; -29.4,-11.75 -29.4,11.75 ; -29.4,-11.75 -25.4,-11.75 -25.4,-10.75 -28.4,-10.75 -28.4,10.75 -25.4,10.75 -25.4,11.75 -29.4,11.75 ; -29.4,-11.75 -29.4,11.75 ; 29.4,-11.75 29.4,11.75 ; 29.4,-11.75 29.4,11.75 ; 29.4,-11.75 25.403,-11.75 25.403,-10.75 28.4,-10.75 28.4,10.75 25.4,10.75 25.4,11.75 29.4,11.75 ; -20.874,-2.837 cw(c-19.898,0) -20.874,2.837 -5,8.3 -5,-8.3 -20.874,-2.837 ; 5,-8.3 20.875,-2.837 ccw(c19.898,0) 20.875,2.837 5,8.3 5,-8.3
3D body "XFMR_EDA-01905-V1-0_misc4.stp": height 65.3, standoff -4, extent -30.1,-21.275 30.1,21.275

## XFMR_EDA-01905-V1-0_misc5 [mm] "ETD39 Core + Coil Former + Yoke"
height 33.5
pads (16):
  round 2.1 hole 1.4: 1(-17.78,-15.24) 2(-12.7,-15.24) 3(-7.62,-15.24) 4(-2.54,-15.24) 5(2.54,-15.24) 6(7.62,-15.24) 7(12.7,-15.24) 8(17.78,-15.24) 9(17.78,15.24) 10(12.7,15.24) 11(7.62,15.24) 12(2.54,15.24) 13(-2.54,15.24) 14(-7.62,15.24) 15(-12.7,15.24) 16(-17.78,15.24)
Top Overlay:
  lines w0.2: -20,-13.59 -20,13.59 ; -13.178,-13.59 -13.178,13.59 ; -13.178,-12.85 13.178,-12.85 ; -13.178,12.85 13.178,12.85 ; -8.63,-14.2 -11.27,-14.2 -11.27,-13.59 -21.7,-13.59 -21.7,-12.94 -22.5,-12.94 -22.5,-20.846 ccw(c-21.2,-20.846) -22.3,-21.539 -22.3,-23.4 22.3,-23.4 22.3,-21.676 ccw(c21.3,-20.846) 22.599,-20.806 ; -8.63,14.2 -11.27,14.2 -11.27,13.59 -21.7,13.59 -21.7,12.94 -22.5,12.94 -22.5,20.846 cw(c-21.2,20.846) -22.3,21.539 -22.3,23.4 22.3,23.4 22.3,21.676 cw(c21.3,20.846) 22.599,20.806 ; -6.61,-14.2 -3.55,-14.2 ; -6.61,14.2 -3.55,14.2 ; -6.15,-14.2 -6.15,-23.64 -5.15,-23.64 -5.15,-14.2 ; -6.15,14.2 -6.15,17.7 -5.15,17.7 -5.15,14.2 ; -3.95,-14.2 -3.95,-12.85 ; -3.95,12.85 -3.95,14.2 ; -1.53,-14.2 1.53,-14.2 ; -1.53,14.2 1.53,14.2 ; 3.55,-14.2 6.61,-14.2 ; 3.55,14.2 6.61,14.2 ; 3.95,-14.2 3.95,-12.85 ; 3.95,12.85 3.95,14.2 ; 5.15,-14.2 5.15,-17.09 6.15,-17.09 6.15,-14.2 ; 5.15,14.2 5.15,17.7 6.15,17.7 6.15,14.2 ; 8.63,-14.2 11.27,-14.2 11.27,-13.59 21.8,-13.59 21.8,-12.94 22.6,-12.94 22.6,-20.846 ; 8.63,14.2 11.27,14.2 11.27,13.59 21.8,13.59 21.8,12.94 22.6,12.94 22.6,20.846 ; 13.178,-13.59 13.178,13.59 ; 20,-13.59 20,13.59 ; -12.425,-12.85 12.425,-12.85 12.425,12.85 -12.425,12.85 -12.425,-12.85
  text "1" at -17.899,-19.74 h1.2
  text "2" at -13.033,-19.74 h1.2
  text "3" at -7.953,-19.74 h1.2
  text "4" at -2.897,-19.74 h1.2
  text "5" at 2.207,-19.74 h1.2
  text "6" at 7.31,-19.74 h1.2
  text "7" at 12.367,-19.74 h1.2
  text "8" at 17.447,-19.74 h1.2
  text "9" at 17.447,18.74 h1.2
  text "14" at -8.358,18.74 h1.2
  text "13" at -3.254,18.74 h1.2
  text "12" at 1.826,18.74 h1.2
  text "10" at 11.986,18.74 h1.2
  text "11" at 6.906,18.74 h1.2
  text "15" at -13.414,18.74 h1.2
  text "16" at -18.494,18.74 h1.2
Mechanical 8:
  lines w0.1: -18.78,-15.24 -17.78,-15.24 ; -18.78,15.24 -17.78,15.24 ; -17.78,-16.24 -17.78,-15.24 ; -17.78,-14.24 -17.78,-15.24 ; -17.78,14.24 -17.78,15.24 ; -17.78,16.24 -17.78,15.24 ; -16.78,-15.24 -17.78,-15.24 ; -16.78,15.24 -17.78,15.24 ; -13.7,-15.24 -12.7,-15.24 ; -13.7,15.24 -12.7,15.24 ; -12.7,-16.24 -12.7,-15.24 ; -12.7,-14.24 -12.7,-15.24 ; -12.7,14.24 -12.7,15.24 ; -12.7,16.24 -12.7,15.24 ; -11.7,-15.24 -12.7,-15.24 ; -11.7,15.24 -12.7,15.24 ; -8.62,-15.24 -7.62,-15.24 ; -8.62,15.24 -7.62,15.24 ; -7.62,-16.24 -7.62,-15.24 ; -7.62,-14.24 -7.62,-15.24 ; -7.62,14.24 -7.62,15.24 ; -7.62,16.24 -7.62,15.24 ; -6.62,-15.24 -7.62,-15.24 ; -6.62,15.24 -7.62,15.24 ; -3.54,-15.24 -2.54,-15.24 ; -3.54,15.24 -2.54,15.24 ; -2.54,-16.24 -2.54,-15.24 ; -2.54,-14.24 -2.54,-15.24 ; -2.54,14.24 -2.54,15.24 ; -2.54,16.24 -2.54,15.24 ; -1.54,-15.24 -2.54,-15.24 ; -1.54,15.24 -2.54,15.24 ; -1,0 0,0 ; 0,-1 0,0 ; 0,1 0,0 ; 1,0 0,0 ; 1.54,-15.24 2.54,-15.24 ; 1.54,15.24 2.54,15.24 ; 2.54,-16.24 2.54,-15.24 ; 2.54,-14.24 2.54,-15.24 ; 2.54,14.24 2.54,15.24 ; 2.54,16.24 2.54,15.24 ; 3.54,-15.24 2.54,-15.24 ; 3.54,15.24 2.54,15.24 ; 6.62,-15.24 7.62,-15.24 ; 6.62,15.24 7.62,15.24 ; 7.62,-16.24 7.62,-15.24 ; 7.62,-14.24 7.62,-15.24 ; 7.62,14.24 7.62,15.24 ; 7.62,16.24 7.62,15.24 ; 8.62,-15.24 7.62,-15.24 ; 8.62,15.24 7.62,15.24 ; 11.7,-15.24 12.7,-15.24 ; 11.7,15.24 12.7,15.24 ; 12.7,-16.24 12.7,-15.24 ; 12.7,-14.24 12.7,-15.24 ; 12.7,14.24 12.7,15.24 ; 12.7,16.24 12.7,15.24 ; 13.7,-15.24 12.7,-15.24 ; 13.7,15.24 12.7,15.24 ; 16.78,-15.24 17.78,-15.24 ; 16.78,15.24 17.78,15.24 ; 17.78,-16.24 17.78,-15.24 ; 17.78,-14.24 17.78,-15.24 ; 17.78,14.24 17.78,15.24 ; 17.78,16.24 17.78,15.24 ; 18.78,-15.24 17.78,-15.24 ; 18.78,15.24 17.78,15.24
Mechanical 14:
  lines w0.1: -20,-13.59 -20,13.59 ; -13.178,-13.59 -13.178,13.59 ; -13.178,-12.85 13.178,-12.85 ; -13.178,12.85 13.178,12.85 ; -6.15,-14.2 -6.15,-23.64 -5.15,-23.64 -5.15,-14.2 ; -6.15,14.2 -6.15,17.7 -5.15,17.7 -5.15,14.2 ; -3.95,-14.2 -3.95,-12.85 ; -3.95,12.85 -3.95,14.2 ; 3.95,-14.2 3.95,-12.85 ; 3.95,12.85 3.95,14.2 ; 5.15,-14.2 5.15,-17.09 6.15,-17.09 6.15,-14.2 ; 5.15,14.2 5.15,17.7 6.15,17.7 6.15,14.2 ; 13.178,-13.59 13.178,13.59 ; 20,-13.59 20,13.59 ; 22.6,-20.846 22.6,-12.94 21.8,-12.94 21.8,-13.59 11.27,-13.59 11.27,-14.2 -11.27,-14.2 -11.27,-13.59 -21.7,-13.59 -21.7,-12.94 -22.5,-12.94 -22.5,-20.846 ccw(c-21.2,-20.846) -22.3,-21.539 -22.3,-23.4 22.3,-23.4 22.3,-21.676 ccw(c21.3,-20.846) 22.599,-20.806 ; 22.599,20.806 ccw(c21.3,20.846) 22.3,21.676 22.3,23.4 -22.3,23.4 -22.3,21.539 ccw(c-21.2,20.846) -22.5,20.846 -22.5,12.94 -21.7,12.94 -21.7,13.59 -11.27,13.59 -11.27,14.2 11.27,14.2 11.27,13.59 21.8,13.59 21.8,12.94 22.6,12.94 22.6,20.846 ; -12.425,-12.85 12.425,-12.85 12.425,12.85 -12.425,12.85 -12.425,-12.85
  text "1" at -17.899,-19.74 h1.2
  text "2" at -13.033,-19.74 h1.2
  text "3" at -7.953,-19.74 h1.2
  text "4" at -2.897,-19.74 h1.2
  text "5" at 2.207,-19.74 h1.2
  text "6" at 7.31,-19.74 h1.2
  text "7" at 12.367,-19.74 h1.2
  text "8" at 17.447,-19.74 h1.2
  text "9" at 17.447,18.74 h1.2
  text "14" at -8.358,18.74 h1.2
  text "13" at -3.254,18.74 h1.2
  text "12" at 1.826,18.74 h1.2
  text "10" at 11.986,18.74 h1.2
  text "11" at 6.906,18.74 h1.2
  text "15" at -13.414,18.74 h1.2
  text "16" at -18.494,18.74 h1.2
3D body "XFMR_EDA-01905-V1-0_misc5.stp": height 35.5, standoff -4.5, extent -22.5,-23.64 22.6,23.4

## XFMR_EDA-02116-V1-0_misc1 [mm] "Transformer D40 x L 65.5"
height 40
Top Overlay:
  lines w0.2: -32.3,-11.45 -57.3,-11.45 -57.3,-7.75 -32.3,-7.75 ; -32.3,3.75 -42,3.75 -42,4.65 -32.3,4.65 ; -32.3,10.35 -42,10.35 -42,11.25 -32.3,11.25 ; -32.3,-20.25 33.3,-20.25 33.3,20.25 -32.3,20.25 -32.3,-20.25
  text "CATHODE" at -42,5.4 h1.5
  text "GATE" at -39.75,12 h1.5
Top Solder:
  lines w1.27: -23.5,-13.51 ccw(c-23,-13.51) -23,-14.01 -16,-14.01 ccw(c-16,-13.51) -15.5,-13.51 -15.5,-11.51 ccw(c-16,-11.51) -16,-11.01 -23,-11.01 ccw(c-23,-11.51) -23.5,-11.51 -23.5,-13.51 ; -23.5,11.49 ccw(c-23,11.49) -23,10.99 -16,10.99 ccw(c-16,11.49) -15.5,11.49 -15.5,13.49 ccw(c-16,13.49) -16,13.99 -23,13.99 ccw(c-23,13.49) -23.5,13.49 -23.5,11.49 ; 16.5,-13.51 ccw(c17,-13.51) 17,-14.01 24,-14.01 ccw(c24,-13.51) 24.5,-13.51 24.5,-11.51 ccw(c24,-11.51) 24,-11.01 17,-11.01 ccw(c17,-11.51) 16.5,-11.51 16.5,-13.51 ; 16.5,11.49 ccw(c17,11.49) 17,10.99 24,10.99 ccw(c24,11.49) 24.5,11.49 24.5,13.49 ccw(c24,13.49) 24,13.99 17,13.99 ccw(c17,13.49) 16.5,13.49 16.5,11.49
Bottom Solder:
  lines w1.27: -23.5,-13.51 ccw(c-23,-13.51) -23,-14.01 -16,-14.01 ccw(c-16,-13.51) -15.5,-13.51 -15.5,-11.51 ccw(c-16,-11.51) -16,-11.01 -23,-11.01 ccw(c-23,-11.51) -23.5,-11.51 -23.5,-13.51 ; -23.5,11.49 ccw(c-23,11.49) -23,10.99 -16,10.99 ccw(c-16,11.49) -15.5,11.49 -15.5,13.49 ccw(c-16,13.49) -16,13.99 -23,13.99 ccw(c-23,13.49) -23.5,13.49 -23.5,11.49 ; 16.5,-13.51 ccw(c17,-13.51) 17,-14.01 24,-14.01 ccw(c24,-13.51) 24.5,-13.51 24.5,-11.51 ccw(c24,-11.51) 24,-11.01 17,-11.01 ccw(c17,-11.51) 16.5,-11.51 16.5,-13.51 ; 16.5,11.49 ccw(c17,11.49) 17,10.99 24,10.99 ccw(c24,11.49) 24.5,11.49 24.5,13.49 ccw(c24,13.49) 24,13.99 17,13.99 ccw(c17,13.49) 16.5,13.49 16.5,11.49
Keep-Out Layer:
  board cut-out: -23,11 -23.099,11 -23.283,11.076 -23.424,11.217 -23.5,11.401 -23.5,11.5 -23.5,13.5 -23.5,13.599 -23.424,13.783 -23.283,13.924 -23.099,14 -23,14 -16,14 -15.901,14 -15.717,13.924 -15.576,13.783 -15.5,13.599 -15.5,13.5 -15.5,11.5 -15.5,11.401 -15.576,11.217 -15.717,11.076 -15.901,11 -16,11
  board cut-out: 17,11 16.901,11 16.717,11.076 16.576,11.217 16.5,11.401 16.5,11.5 16.5,13.5 16.5,13.599 16.576,13.783 16.717,13.924 16.901,14 17,14 24,14 24.099,14 24.283,13.924 24.424,13.783 24.5,13.599 24.5,13.5 24.5,11.5 24.5,11.401 24.424,11.217 24.283,11.076 24.099,11 24,11
  board cut-out: 17,-14 16.901,-14 16.717,-13.924 16.576,-13.783 16.5,-13.599 16.5,-13.5 16.5,-11.5 16.5,-11.401 16.576,-11.217 16.717,-11.076 16.901,-11 17,-11 24,-11 24.099,-11 24.283,-11.076 24.424,-11.217 24.5,-11.401 24.5,-11.5 24.5,-13.5 24.5,-13.599 24.424,-13.783 24.283,-13.924 24.099,-14 24,-14
  board cut-out: -23,-14 -23.099,-14 -23.283,-13.924 -23.424,-13.783 -23.5,-13.599 -23.5,-13.5 -23.5,-11.5 -23.5,-11.401 -23.424,-11.217 -23.283,-11.076 -23.099,-11 -23,-11 -16,-11 -15.901,-11 -15.717,-11.076 -15.576,-11.217 -15.5,-11.401 -15.5,-11.5 -15.5,-13.5 -15.5,-13.599 -15.576,-13.783 -15.717,-13.924 -15.901,-14 -16,-14
Mechanical 1:
  lines w1.27: -23.5,-13.5 ccw(c-23,-13.5) -23,-14 -16,-14 ccw(c-16,-13.5) -15.5,-13.5 -15.5,-11.5 ccw(c-16,-11.5) -16,-11 -23,-11 ccw(c-23,-11.5) -23.5,-11.5 -23.5,-13.5 ; -23.5,11.5 ccw(c-23,11.5) -23,11 -16,11 ccw(c-16,11.5) -15.5,11.5 -15.5,13.5 ccw(c-16,13.5) -16,14 -23,14 ccw(c-23,13.5) -23.5,13.5 -23.5,11.5 ; 16.5,-13.5 ccw(c17,-13.5) 17,-14 24,-14 ccw(c24,-13.5) 24.5,-13.5 24.5,-11.5 ccw(c24,-11.5) 24,-11 17,-11 ccw(c17,-11.5) 16.5,-11.5 16.5,-13.5 ; 16.5,11.5 ccw(c17,11.5) 17,11 24,11 ccw(c24,11.5) 24.5,11.5 24.5,13.5 ccw(c24,13.5) 24,14 17,14 ccw(c17,13.5) 16.5,13.5 16.5,11.5
Mechanical 8:
  lines w0.1: -20,-12.5 -19.5,-12.5 ; -20,12.5 -19.5,12.5 ; -19.5,-13 -19.5,-12.5 ; -19.5,-12 -19.5,-12.5 ; -19.5,12 -19.5,12.5 ; -19.5,13 -19.5,12.5 ; -19,-12.5 -19.5,-12.5 ; -19,12.5 -19.5,12.5 ; -0.5,0 0,0 ; 0,-0.5 0,0 ; 0,0.5 0,0 ; 0.5,0 0,0 ; 20,-12.5 20.5,-12.5 ; 20,12.5 20.5,12.5 ; 20.5,-13 20.5,-12.5 ; 20.5,-12 20.5,-12.5 ; 20.5,12 20.5,12.5 ; 20.5,13 20.5,12.5 ; 21,-12.5 20.5,-12.5 ; 21,12.5 20.5,12.5
Mechanical 14:
  lines w0.1: -32.3,-11.45 -57.3,-11.45 -57.3,-7.75 -32.3,-7.75 ; -32.3,3.75 -42,3.75 -42,4.65 -32.3,4.65 ; -32.3,10.35 -42,10.35 -42,11.25 -32.3,11.25 ; -32.3,-20.25 33.3,-20.25 33.3,20.25 -32.3,20.25 -32.3,-20.25 ; -23.5,-13.5 ccw(c-23,-13.5) -23,-14 -16,-14 ccw(c-16,-13.5) -15.5,-13.5 -15.5,-11.5 ccw(c-16,-11.5) -16,-11 -23,-11 ccw(c-23,-11.5) -23.5,-11.5 -23.5,-13.5 ; -23.5,11.5 ccw(c-23,11.5) -23,11 -16,11 ccw(c-16,11.5) -15.5,11.5 -15.5,13.5 ccw(c-16,13.5) -16,14 -23,14 ccw(c-23,13.5) -23.5,13.5 -23.5,11.5 ; 16.5,-13.5 ccw(c17,-13.5) 17,-14 24,-14 ccw(c24,-13.5) 24.5,-13.5 24.5,-11.5 ccw(c24,-11.5) 24,-11 17,-11 ccw(c17,-11.5) 16.5,-11.5 16.5,-13.5 ; 16.5,11.5 ccw(c17,11.5) 17,11 24,11 ccw(c24,11.5) 24.5,11.5 24.5,13.5 ccw(c24,13.5) 24,14 17,14 ccw(c17,13.5) 16.5,13.5 16.5,11.5
  text "CATHODE" at -42,5.4 h1.5
  text "GATE" at -39.75,12 h1.5
Drill Drawing:
  lines w0.1: -28.5,-12.5 -20.5,-12.5 ; -28.5,12.5 -20.5,12.5 ; -27.842,-11.56 -27.5,-12.5 ; -27.842,11.56 -27.5,12.5 ; -27.158,-11.56 -27.5,-12.5 ; -27.158,11.56 -27.5,12.5 ; -20,-12.5 -19.5,-12.5 ; -20,12.5 -19.5,12.5 ; -19.5,-18.5 -19.5,-13.5 ; -19.5,-13 -19.5,-12.5 ; -19.5,-12 -19.5,-12.5 ; -19.5,-11.5 -19.5,11.5 ; -19.5,12 -19.5,12.5 ; -19.5,13 -19.5,12.5 ; -19,-12.5 -19.5,-12.5 ; -19,12.5 -19.5,12.5 ; -18.56,-17.842 -19.5,-17.5 ; -18.56,-17.158 -19.5,-17.5 ; -18.5,-12.5 19.5,-12.5 ; -18.5,12.5 19.5,12.5 ; -0.5,0 0,0 ; 0,-0.5 0,0 ; 0,0.5 0,0 ; 0.5,0 0,0 ; 14.5,11 16.5,11 ; 14.5,14 16.5,14 16.5,16 ; 14.658,10.06 15,11 15.342,10.06 ; 14.658,14.94 15,14 15.342,14.94 ; 15,10.06 15,14.94 ; 15.56,15.158 16.5,15.5 15.56,15.842 ; 15.56,15.5 25.44,15.5 ; 19.56,-17.842 20.5,-17.5 ; 19.56,-17.158 20.5,-17.5 ; 20,-12.5 20.5,-12.5 ; 20,12.5 20.5,12.5 ; 20.5,-18.5 20.5,-13.5 ; 20.5,-13 20.5,-12.5 ; 20.5,-12 20.5,-12.5 ; 20.5,-11.5 20.5,11.5 ; 20.5,12 20.5,12.5 ; 20.5,13 20.5,12.5 ; 21,-12.5 20.5,-12.5 ; 21,12.5 20.5,12.5 ; 23.447,11.569 24.354,11.146 ; 23.931,12.053 24.354,11.146 ; 24.5,14 24.5,16 ; 25.44,15.158 24.5,15.5 25.44,15.842 ; 27.636,12.598 22.902,12.598 24.354,11.146 ; -27.5,-12.5 -27.5,12.5 ; -19.5,-17.5 20.5,-17.5 ; -23.5,-13.5 ccw(c-23,-13.5) -23,-14 -16,-14 ccw(c-16,-13.5) -15.5,-13.5 -15.5,-11.5 ccw(c-16,-11.5) -16,-11 -23,-11 ccw(c-23,-11.5) -23.5,-11.5 -23.5,-13.5 ; -23.5,11.5 ccw(c-23,11.5) -23,11 -16,11 ccw(c-16,11.5) -15.5,11.5 -15.5,13.5 ccw(c-16,13.5) -16,14 -23,14 ccw(c-23,13.5) -23.5,13.5 -23.5,11.5 ; 16.5,-13.5 ccw(c17,-13.5) 17,-14 24,-14 ccw(c24,-13.5) 24.5,-13.5 24.5,-11.5 ccw(c24,-11.5) 24,-11 17,-11 ccw(c17,-11.5) 16.5,-11.5 16.5,-13.5 ; 16.5,11.5 ccw(c17,11.5) 17,11 24,11 ccw(c24,11.5) 24.5,11.5 24.5,13.5 ccw(c24,13.5) 24,14 17,14 ccw(c17,13.5) 16.5,13.5 16.5,11.5
  text "3" at 14.741,11.395 h1
  text "8" at 20.15,15.759 h1
  text "r0.5" at 25.074,12.807 h1
  text "25" at -27.759,-0.708 h1
  text "40" at -0.25,-17.241 h1
3D body "XFMR_EDA-02116_misc1.stp": height 41.07, standoff -8, extent -64.15,-20.25 33.3,28.71

## XFMR_MA-COM_SM-22 (H260) [mm] "MA-COM E-Serie RF 1:1 Transmission Line Ttransformer 4.5-3000MHz"
height 2.6
pads (5):
  rect 0.76x1.4 smd: 1(-1.27,1.715) 2(0,1.715) 3(1.27,1.715) 4(1.27,-1.715) 5(-1.27,-1.715)
Top Overlay:
  circle w0.25: c-2.175,1.6 r0.125
  lines w0.2: -1.905,-0.615 -1.905,0.615 ; -0.49,-1.295 0.49,-1.295 ; 1.905,-0.615 1.905,0.615
Mechanical 8:
  lines w0.1: -1.77,-1.715 -1.27,-1.715 ; -1.77,1.715 -1.27,1.715 ; -1.27,-2.215 -1.27,-1.715 ; -1.27,-1.215 -1.27,-1.715 ; -1.27,1.215 -1.27,1.715 ; -1.27,2.215 -1.27,1.715 ; -0.77,-1.715 -1.27,-1.715 ; -0.77,1.715 -1.27,1.715 ; -0.5,0 0,0 ; -0.5,1.715 0,1.715 ; 0,-0.5 0,0 ; 0,0.5 0,0 ; 0,1.215 0,1.715 ; 0,2.215 0,1.715 ; 0.5,0 0,0 ; 0.5,1.715 0,1.715 ; 0.77,-1.715 1.27,-1.715 ; 0.77,1.715 1.27,1.715 ; 1.27,-2.215 1.27,-1.715 ; 1.27,-1.215 1.27,-1.715 ; 1.27,1.215 1.27,1.715 ; 1.27,2.215 1.27,1.715 ; 1.77,-1.715 1.27,-1.715 ; 1.77,1.715 1.27,1.715 ; -1.65,-2.415 -0.89,-2.415 -0.89,-1.015 -1.65,-1.015 -1.65,-2.415 ; -1.65,1.015 -1.65,2.415 -0.89,2.415 -0.89,1.015 -1.65,1.015 ; -0.38,1.015 -0.38,2.415 0.38,2.415 0.38,1.015 -0.38,1.015 ; 0.89,-2.415 1.65,-2.415 1.65,-1.015 0.89,-1.015 0.89,-2.415 ; 0.89,1.015 0.89,2.415 1.65,2.415 1.65,1.015 0.89,1.015
Mechanical 14:
  circle w0.25: c-2.175,1.6 r0.125
  lines w0.1: -1.905,-1.095 1.905,-1.095 ; -1.905,1.095 1.905,1.095 ; -1.625,-1.01 -0.915,-1.01 -0.915,-2.03 ; -0.915,1.01 -0.915,2.03 ; -0.355,1.01 -0.355,2.03 ; 1.65,-1.391 cw(c1.75,-1.395) 1.746,-1.295 ; 1.75,-1.295 1.905,-1.295 1.905,1.295 1.75,1.295 cw(c1.75,1.395) 1.65,1.395 ; -1.65,-1.395 ccw(c-1.75,-1.395) -1.75,-1.295 -1.905,-1.295 -1.905,1.295 -1.75,1.295 ccw(c-1.75,1.395) -1.65,1.395 ; -1.65,-1.395 -1.65,-1.905 -0.89,-1.905 -0.89,-1.395 ; -1.65,-1.395 -0.89,-1.395 ; -1.65,1.395 -0.89,1.395 ; -1.65,1.395 -1.65,1.905 -0.89,1.905 -0.89,1.395 ; -0.89,-1.395 cw(c-0.79,-1.395) -0.79,-1.295 0.79,-1.295 cw(c0.79,-1.395) 0.89,-1.395 ; -0.89,1.395 ccw(c-0.79,1.395) -0.79,1.295 -0.48,1.295 ccw(c-0.48,1.395) -0.38,1.395 ; -0.38,1.395 0.38,1.395 ; -0.38,1.395 -0.38,1.905 0.38,1.905 0.38,1.395 ; 0.38,1.395 ccw(c0.48,1.395) 0.48,1.295 0.79,1.295 ccw(c0.79,1.395) 0.89,1.395 ; 0.89,-1.395 0.89,-1.905 1.65,-1.905 1.65,-1.395 0.89,-1.395 ; 0.89,1.395 1.65,1.395 ; 0.89,1.395 0.89,1.905 1.65,1.905 1.65,1.395
Mechanical 15:
  lines w0.05: -2.155,-2.665 2.155,-2.665 2.155,2.665 -2.155,2.665 -2.155,-2.665
3D body "XFMR_MA-COM_SM-22 (H260).stp": height 2.6, standoff 0, extent -1.905,-1.905 1.905,1.905

## XFMR_MINI-CIRCUITS_AT224 [mm] "MINI-CIRCUITS RF Transformer, Case AT224 - Body 3.81X3.81mm"
height 3.81
pads (5):
  rect 0.76x1.65 smd: 1(-1.27,1.59) 2(0,1.59) 3(1.27,1.59) 4(1.27,-1.59) 6(-1.27,-1.59)
Top Overlay:
  circle w0.25: c-2.175,1.6 r0.125
  lines w0.2: -1.905,-0.365 1.905,-0.365 1.905,0.365 -1.905,0.365 -1.905,-0.365
Mechanical 8:
  lines w0.1: -1.27,-2.59 -1.27,-1.59 ; -1.27,-0.59 -1.27,-1.59 ; -1.27,0.59 -1.27,1.59 ; -1.27,2.59 -1.27,1.59 ; -1,0 0,0 ; -0.38,-0.765 0.38,-0.765 ; 0,-1 0,0 ; 0,0.59 0,1.59 0,2.59 ; 0,1 0,0 ; 1,0 0,0 ; 1.27,-2.59 1.27,-1.59 1.27,-0.59 ; 1.27,0.59 1.27,1.59 1.27,2.59 ; 1.65,-1.59 -1.27,-1.59 ; 1.65,1.59 -1.27,1.59 ; -1.65,-2.415 -0.89,-2.415 -0.89,-0.765 -1.65,-0.765 -1.65,-2.415 ; -1.65,0.765 -0.89,0.765 -0.89,2.415 -1.65,2.415 -1.65,0.765 ; -0.38,0.765 0.38,0.765 0.38,2.415 -0.38,2.415 -0.38,0.765 ; 0.89,-2.415 1.65,-2.415 1.65,-0.765 0.89,-0.765 0.89,-2.415 ; 0.89,0.765 1.65,0.765 1.65,2.415 0.89,2.415 0.89,0.765
Mechanical 14:
  circle w0.25: c-2.175,1.6 r0.125
  lines w0.1: -1.625,-1.905 -1.625,-1.145 -0.915,-1.145 -0.915,-1.905 ; -1.625,1.905 -1.625,1.145 -0.915,1.145 -0.915,1.905 ; -0.355,1.905 -0.355,1.145 0.355,1.145 0.355,1.905 ; 0.915,-1.905 0.915,-1.145 1.625,-1.145 1.625,-1.905 ; 0.915,1.905 0.915,1.145 1.625,1.145 1.625,1.905 ; -1.905,-1.905 1.905,-1.905 1.905,1.905 -1.905,1.905 -1.905,-1.905
Mechanical 15:
  lines w0.05: -2.155,-2.665 2.155,-2.665 2.155,2.665 -2.155,2.665 -2.155,-2.665
3D body "XFMR_MINI-CIRCUITS_AT224.stp": height 3.81, standoff 0, extent -1.905,-1.905 1.905,1.905

## XFMR_MINI-CIRCUITS_AT224-1 [mm] "MINI-CIRCUITS RF Transformer, Case AT224-1 - Body 3.81X3.81mm"
height 4.06
pads (5):
  rect 0.76x1.65 smd: 1(-1.27,1.59) 2(0,1.59) 3(1.27,1.59) 4(1.27,-1.59) 6(-1.27,-1.59)
Top Overlay:
  circle w0.25: c-2.175,1.6 r0.125
  lines w0.2: -1.905,-0.365 1.905,-0.365 1.905,0.365 -1.905,0.365 -1.905,-0.365
Mechanical 8:
  lines w0.1: -1.27,-2.59 -1.27,-1.59 ; -1.27,-0.59 -1.27,-1.59 ; -1.27,0.59 -1.27,1.59 ; -1.27,2.59 -1.27,1.59 ; -1,0 0,0 ; -0.38,-0.765 0.38,-0.765 ; 0,-1 0,0 ; 0,0.59 0,1.59 0,2.59 ; 0,1 0,0 ; 1,0 0,0 ; 1.27,-2.59 1.27,-1.59 1.27,-0.59 ; 1.27,0.59 1.27,1.59 1.27,2.59 ; 1.65,-1.59 -1.27,-1.59 ; 1.65,1.59 -1.27,1.59 ; -1.65,-2.415 -0.89,-2.415 -0.89,-0.765 -1.65,-0.765 -1.65,-2.415 ; -1.65,0.765 -0.89,0.765 -0.89,2.415 -1.65,2.415 -1.65,0.765 ; -0.38,0.765 0.38,0.765 0.38,2.415 -0.38,2.415 -0.38,0.765 ; 0.89,-2.415 1.65,-2.415 1.65,-0.765 0.89,-0.765 0.89,-2.415 ; 0.89,0.765 1.65,0.765 1.65,2.415 0.89,2.415 0.89,0.765
Mechanical 14:
  circle w0.25: c-2.175,1.6 r0.125
  lines w0.1: -1.625,-1.905 -1.625,-1.145 -0.915,-1.145 -0.915,-1.905 ; -1.625,1.905 -1.625,1.145 -0.915,1.145 -0.915,1.905 ; -0.355,1.905 -0.355,1.145 0.355,1.145 0.355,1.905 ; 0.915,-1.905 0.915,-1.145 1.625,-1.145 1.625,-1.905 ; 0.915,1.905 0.915,1.145 1.625,1.145 1.625,1.905 ; -1.905,-1.905 1.905,-1.905 1.905,1.905 -1.905,1.905 -1.905,-1.905
Mechanical 15:
  lines w0.05: -2.155,-2.665 2.155,-2.665 2.155,2.665 -2.155,2.665 -2.155,-2.665
3D body "XFMR_MINI-CIRCUITS_AT224-1.stp": height 4.06, standoff 0, extent -1.905,-1.905 1.905,1.905

## XFMR_MINI-CIRCUITS_AT224-3 [mm] "MINI-CIRCUITS RF Transformer, Case AT224-3 - Body 3.81X3.81mm"
height 3.81
pads (5):
  rect 0.76x1.65 smd: 1(-1.27,1.59) 2(0,1.59) 3(1.27,1.59) 4(1.27,-1.59) 6(-1.27,-1.59)
Top Overlay:
  circle w0.25: c-2.175,1.6 r0.125
  lines w0.2: -1.905,-0.365 1.905,-0.365 1.905,0.365 -1.905,0.365 -1.905,-0.365
Mechanical 8:
  lines w0.1: -1.27,-2.59 -1.27,-1.59 ; -1.27,-0.59 -1.27,-1.59 ; -1.27,0.59 -1.27,1.59 ; -1.27,2.59 -1.27,1.59 ; -1,0 0,0 ; -0.38,-0.765 0.38,-0.765 ; 0,-1 0,0 ; 0,0.59 0,1.59 0,2.59 ; 0,1 0,0 ; 1,0 0,0 ; 1.27,-2.59 1.27,-1.59 1.27,-0.59 ; 1.27,0.59 1.27,1.59 1.27,2.59 ; 1.65,-1.59 -1.27,-1.59 ; 1.65,1.59 -1.27,1.59 ; -1.65,-2.415 -0.89,-2.415 -0.89,-0.765 -1.65,-0.765 -1.65,-2.415 ; -1.65,0.765 -0.89,0.765 -0.89,2.415 -1.65,2.415 -1.65,0.765 ; -0.38,0.765 0.38,0.765 0.38,2.415 -0.38,2.415 -0.38,0.765 ; 0.89,-2.415 1.65,-2.415 1.65,-0.765 0.89,-0.765 0.89,-2.415 ; 0.89,0.765 1.65,0.765 1.65,2.415 0.89,2.415 0.89,0.765
Mechanical 14:
  circle w0.25: c-2.175,1.6 r0.125
  lines w0.1: -1.625,-1.905 -1.625,-1.145 -0.915,-1.145 -0.915,-1.905 ; -1.625,1.905 -1.625,1.145 -0.915,1.145 -0.915,1.905 ; -0.355,1.905 -0.355,1.145 0.355,1.145 0.355,1.905 ; 0.915,-1.905 0.915,-1.145 1.625,-1.145 1.625,-1.905 ; 0.915,1.905 0.915,1.145 1.625,1.145 1.625,1.905 ; -1.905,-1.905 1.905,-1.905 1.905,1.905 -1.905,1.905 -1.905,-1.905
Mechanical 15:
  lines w0.05: -2.155,-2.665 2.155,-2.665 2.155,2.665 -2.155,2.665 -2.155,-2.665
3D body "XFMR_MINI-CIRCUITS_AT224-3.stp": height 3.81, standoff 0, extent -1.905,-1.905 1.905,1.905